# Altium schematic symbol library MSP430F5528.SchLib: 1 symbol
Pins are listed as number, name and electrical type; pins without a type are passive.

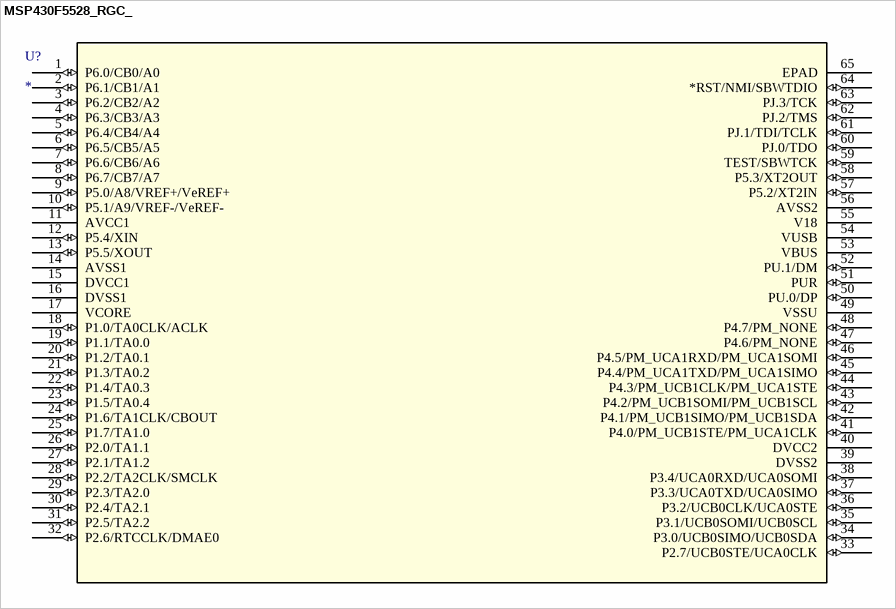
[diagram p0: symbol MSP430F5528_RGC_]

## MSP430F5528_RGC_
designator U?
MSP430F5528; Manufacturer_Part_Number: msp430f5528_rgc_64; Vendor: Texas Instruments; PACKAGE_DESIGNATOR: RGC; PIN_COUNT: 64; FAMILY_NAME: 5 Series; INDUSTRY_STD_PKG_TYPE: VQFN; GENERIC_PART_NUMBER: MSP430F5528; Datasheet URL: http://www.ti.com/lit/gpn/MSP430F5528; Manufacturer: Texas Instruments; RefDes: RefDes; Type: DEV; Value: Value
footprint RGC64_4P25X4P25
pins: 1 P6.0/CB0/A0 (io), 2 P6.1/CB1/A1 (io), 3 P6.2/CB2/A2 (io), 4 P6.3/CB3/A3 (io), 5 P6.4/CB4/A4 (io), 6 P6.5/CB5/A5 (io), 7 P6.6/CB6/A6 (io), 8 P6.7/CB7/A7 (io), 9 P5.0/A8/VREF+/VeREF+ (io), 10 P5.1/A9/VREF-/VeREF- (io), 11 AVCC1 (power), 12 P5.4/XIN (io), 13 P5.5/XOUT (io), 14 AVSS1 (power), 15 DVCC1 (power), 16 DVSS1 (power), 17 VCORE (power), 18 P1.0/TA0CLK/ACLK (io), 19 P1.1/TA0.0 (io), 20 P1.2/TA0.1 (io), 21 P1.3/TA0.2 (io), 22 P1.4/TA0.3 (io), 23 P1.5/TA0.4 (io), 24 P1.6/TA1CLK/CBOUT (io), 25 P1.7/TA1.0 (io), 26 P2.0/TA1.1 (io), 27 P2.1/TA1.2 (io), 28 P2.2/TA2CLK/SMCLK (io), 29 P2.3/TA2.0 (io), 30 P2.4/TA2.1 (io), 31 P2.5/TA2.2 (io), 32 P2.6/RTCCLK/DMAE0 (io), 33 P2.7/UCB0STE/UCA0CLK (io), 34 P3.0/UCB0SIMO/UCB0SDA (io), 35 P3.1/UCB0SOMI/UCB0SCL (io), 36 P3.2/UCB0CLK/UCA0STE (io), 37 P3.3/UCA0TXD/UCA0SIMO (io), 38 P3.4/UCA0RXD/UCA0SOMI (io), 39 DVSS2 (power), 40 DVCC2 (power), 41 P4.0/PM_UCB1STE/PM_UCA1CLK (io), 42 P4.1/PM_UCB1SIMO/PM_UCB1SDA (io), 43 P4.2/PM_UCB1SOMI/PM_UCB1SCL (io), 44 P4.3/PM_UCB1CLK/PM_UCA1STE (io), 45 P4.4/PM_UCA1TXD/PM_UCA1SIMO (io), 46 P4.5/PM_UCA1RXD/PM_UCA1SOMI (io), 47 P4.6/PM_NONE (io), 48 P4.7/PM_NONE (io), 49 VSSU (power), 50 PU.0/DP (io), 51 PUR (io), 52 PU.1/DM (io), 53 VBUS (power), 54 VUSB (power), 55 V18 (power), 56 AVSS2 (power), 57 P5.2/XT2IN (io), 58 P5.3/XT2OUT (io), 59 TEST/SBWTCK (io), 60 PJ.0/TDO (io), 61 PJ.1/TDI/TCLK (io), 62 PJ.2/TMS (io), 63 PJ.3/TCK (io), 64 *RST/NMI/SBWTDIO (io), 65 EPAD